# Altium footprint library PcbLib1.PcbLib: 18 footprints (part 2 of 2)
Each footprint in its own frame and in the unit in brackets; x right, y up, seen from the top. Pads: shape width x height; smd on the part's side, far side on the other; paste and mask are expansions set on the pad; w line width, h text height; cw(c..) or ccw(c..) is an arc to the next point about the centre after c.
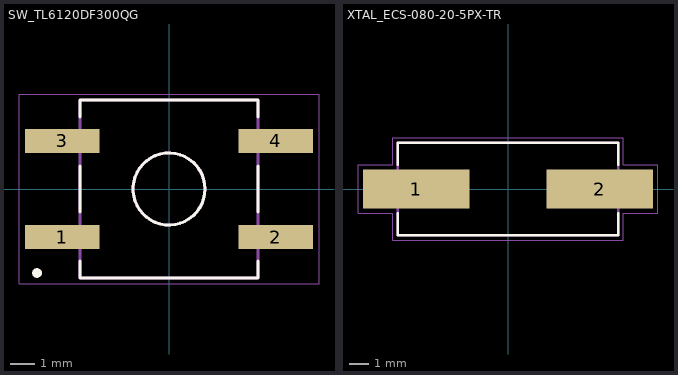
[diagram p1: the footprints below, top view; thin cyan lines are the x and y axes]

## SW_TL6120DF300QG [mm]
pads (4):
  rect 3.1x1 smd: 1(-4.45,-2) 2(4.45,-2) 3(-4.45,2) 4(4.45,2)
Top Overlay:
  circle w0.2: c-5.5,-3.5 r0.1
  circle w0.127: c0,0 r1.5
  lines w0.127: -3.7,-3 -3.7,-3.7 3.7,-3.7 3.7,-3 ; -3.7,-0.956 -3.7,0.956 ; -3.7,3 -3.7,3.7 3.7,3.7 3.7,3 ; 3.7,-0.956 3.7,0.956
Mechanical 13:
  circle w0.2: c-5.5,-3.5 r0.1
  circle w0.127: c0,0 r1.5
  lines w0.127: -3.7,-3.7 -3.7,3.7 3.7,3.7 3.7,-3.7 -3.7,-3.7
Mechanical 15:
  lines w0.05: -6.25,-3.95 -6.25,3.95 6.25,3.95 6.25,-3.95 -6.25,-3.95
3D body "step_temp.STEP": height 10.01, standoff -0.09, extent -5,-3.7 5,3.7

## XTAL_ECS-080-20-5PX-TR [mm]
pads (2):
  rect 5.5x2 smd: 1(-4.75,0) 2(4.75,0)
Top Overlay:
  lines w0.127: -5.7,-1.254 -5.7,-2.4 5.7,-2.4 5.7,-1.254 ; -5.7,1.254 -5.7,2.4 5.7,2.4 5.7,1.254
Mechanical 13:
  lines w0.127: -5.7,-2.4 5.7,-2.4 5.7,2.4 -5.7,2.4 -5.7,-2.4
Mechanical 15:
  lines w0.05: -7.75,-1.25 -7.75,1.25 -5.95,1.25 -5.95,2.65 5.95,2.65 5.95,1.25 7.75,1.25 7.75,-1.25 5.95,-1.25 5.95,-2.65 -5.95,-2.65 -5.95,-1.25 -7.75,-1.25
3D body "step_temp.STEP": height 4.3, standoff 0, extent -6.6,-2.39 6.6,2.41